# Altium schematic symbol library SomoPowerPackControl.SchLib: 47 symbols
Pins are listed as number, name and electrical type; pins without a type are passive.

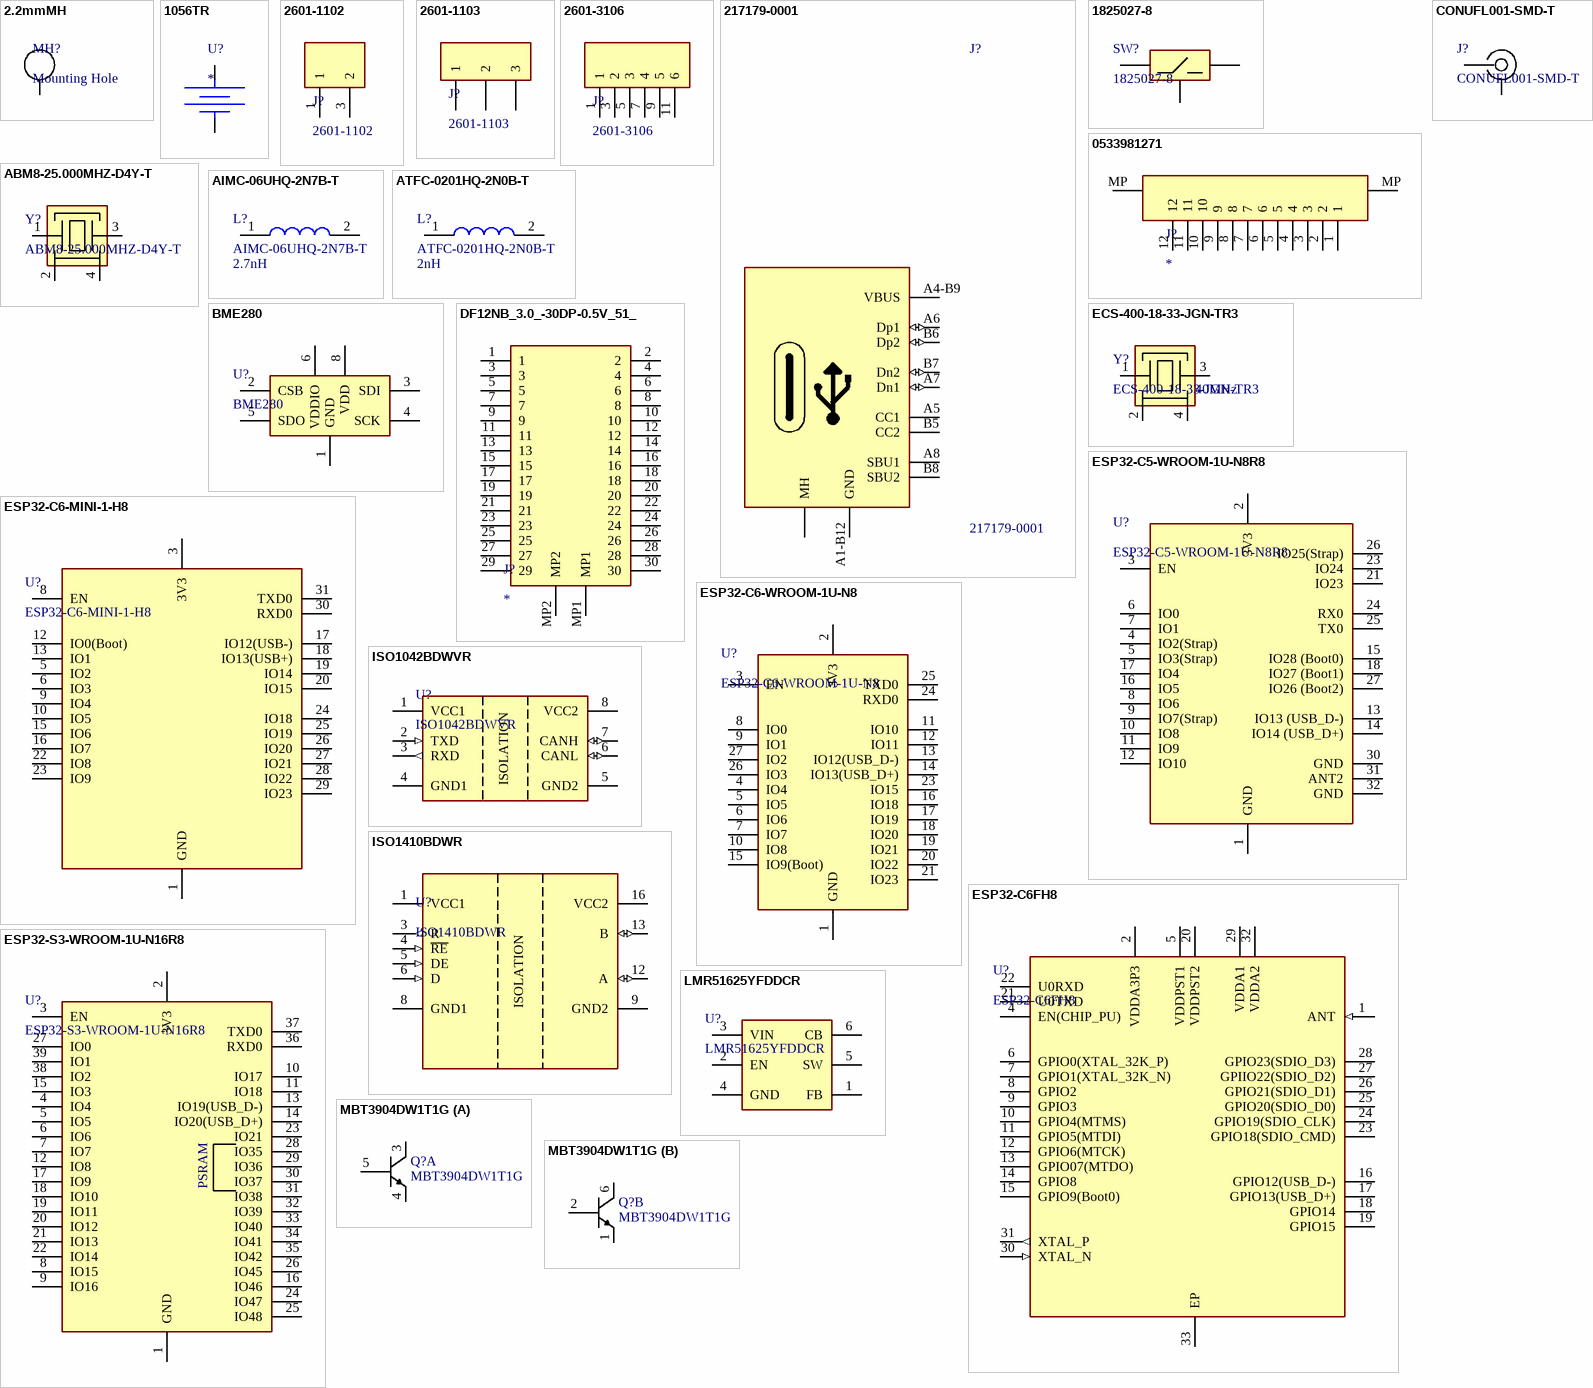
[diagram p0: symbols 2.2mmMH to MBT3904DW1T1G]

## 2.2mmMH
designator MH?, comment Mounting Hole  (no BOM)
2.2mm Mounting Hole
footprint MountingHole2.2 (2.2mm Mounting Hole)
pins: 1

## 1056TR
designator U?
Undefined or Miscellaneous; Manufacturer_Name: Keystone Electronics; Manufacturer_Part_Number: 1056TR; Datasheet Link: http://www.keyelco.com/product-pdf.cfm?p=4028; Mouser Part Number: 534-1056TR; Mouser Price/Stock: https://www.mouser.co.uk/ProductDetail/Keystone-Electronics/1056TR?qs=sZfk%252BfAlGe6t6AyLJNcPdQ%3D%3D; Arrow Part Number: 1056TR; Arrow Price/Stock: https://www.arrow.com/en/products/1056tr/keystone-electronics?utm_currency=USD&region=europe
footprint 1056TR
pins: 1, 2

## 2601-1102
designator J?
2 Position Wire to Board Terminal Block Horizontal with Board 0.138" (3.50mm) Through Hole; Manufacturer_Name: Wago; Datasheet Link: https://www.wago.com/2601-1102; Height: 12.75mm; Manufacturer_Part_Number: 2601-1102; Value: 2601-1102
footprint 26011102
pins: 1, 2 1.2, 3 2, 4 2.2

## 2601-1103
designator J?
3 Position Wire to Board Terminal Block Horizontal with Board 0.138" (3.50mm) Through Hole; Manufacturer_Name: Wago; Datasheet Link: https://www.wago.com/2601-1103; Height: 12.75mm; Manufacturer_Part_Number: 2601-1103; Value: 2601-1103
footprint 26011103
pins: 1, 2 1.2, 3 2, 4 2.2, 5 3, 6 3.2

## 2601-3106
designator J?
6 Position Wire to Board Terminal Block Vertical with Board 0.138" (3.50mm) Through Hole; Manufacturer_Name: Wago; Datasheet Link: https://www.wago.com/2601-3106; Height: 16.58mm; Manufacturer_Part_Number: 2601-3106; Arrow Part Number: 2601-3106; Arrow Price/Stock: https://www.arrow.com/en/products/2601-3106/wago-kontakttechnik-gmbh?utm_currency=USD&region=nac; Value: 2601-3106
footprint 26013106
pins: 1, 2 1, 3 2, 4 2, 5 3, 6 3, 7 4, 8 4, 9 5, 10 5, 11 6, 12 6

## 217179-0001
designator J?
CONN RCP USB2.0 TYP C 24P SMD RA; NexarPartId: 117190526; Gender: Receptacle; Number of Contacts: 16; Current Rating: 1.25A; Voltage Rating: 30V; Min Operating Temperature: -40°C; USB Standard: USB 2.0; Height: 3.36mm; Contact Material: Gold, Nickel; Max Operating Temperature: 85°C
footprint 217179-0001
pins: 1 MH, 2 MNT 2, 3 MNT 3 (power), 4 MNT 4 (power), A1-B12 GND (power), A4-B9 VBUS (power), A5 CC1, A6 Dp1 (io), A7 Dn1 (io), A8 SBU1, B1-A12 GND (power), B4-A9 VBUS (power), B5 CC2, B6 Dp2 (io), B7 Dn2 (io), B8 SBU2

## 1825027-8
designator SW?
Tactile Switches R/A TACT 160G PB SWITCH; Manufacturer_Name: TE Connectivity; Datasheet Link: https://www.te.com/commerce/DocumentDelivery/DDEController?Action=srchrtrv&DocNm=1308111-1_SWITCHES_CORE_PROGRAM_CATALOG&DocType=Catalog%20Section&DocLang=English&PartCntxt=1825027-8&DocFormat=pdf; Manufacturer_Part_Number: 1825027-8; Mouser Part Number: 506-1825027-8; Mouser Price/Stock: https://www.mouser.co.uk/ProductDetail/TE-Connectivity-PB/1825027-8?qs=epcAG6di8sy8nV4XqfkwYg%3D%3D; Arrow Part Number: 1825027-8; Arrow Price/Stock: https://www.arrow.com/en/products/1825027-8/te-connectivity?utm_currency=USD&region=nac; Value: 1825027-8
footprint 1825027-8
pins: 1, 2, 3, 4

## 0533981271
designator J?
Connector; Manufacturer_Name: Molex; Manufacturer_Part_Number: 0533981271; Datasheet Link: https://www.molex.com/en-us/products/part-detail-pdf/533981271?display=pdf; Mouser Part Number: N/A; Mouser Price/Stock: https://www.mouser.co.uk/ProductDetail/Molex/0533981271?qs=PBcRNPEHKsqZYaCk%2Fl04Qw%3D%3D; Arrow Part Number: 0533981271; Arrow Price/Stock: https://www.arrow.com/en/products/0533981271/molex?region=nac
footprint 53398-1271
pins: 1, 2, 3, 4, 5, 6, 7, 8, 9, 10, 11, 12, MP 13, MP 14

## ABM8-25.000MHZ-D4Y-T
designator Y?
Crystals 25.0 MHZ 18PF; Manufacturer_Name: ABRACON; Datasheet Link: https://abracon.com/Resonators/abm8.pdf; Height: 0.8mm; Manufacturer_Part_Number: ABM8-25.000MHZ-D4Y-T; Mouser Part Number: 815-ABM825MHZD4YT; Mouser Price/Stock: https://www.mouser.co.uk/ProductDetail/ABRACON/ABM8-25.000MHZ-D4Y-T?qs=wnTfsH77Xs60Mu7RwfpTpw%3D%3D; Arrow Part Number: ABM8-25.000MHZ-D4Y-T; Arrow Price/Stock: https://www.arrow.com/en/products/abm8-25.000mhz-d4y-t/abracon?region=nac; Value: ABM8-25.000MHZ-D4Y-T
footprint ABM810000MHZ12D2W
pins: 1 X1, 2 GND_1, 3 X2, 4 GND_2

## AIMC-06UHQ-2N7B-T
designator L?  Inductance: 2.7nH
RF Inductors - SMD IND 2.7 nH 0.6A 120 mOhm; Manufacturer_Part_Number: AIMC-06UHQ-2N7B-T; Value: AIMC-06UHQ-2N7B-T
footprint INDC0603X28N
pins: 1, 2

## ATFC-0201HQ-2N0B-T
designator L?  Inductance: 2nH
RF Inductors - SMD IND 2.00 nH 0.500 A 200.00 mOhm; Manufacturer_Name: ABRACON; Datasheet Link: https://abracon.com/Magnetics/inductors/ATFC-0201HQ.pdf; Height: 0.28mm; Manufacturer_Part_Number: ATFC-0201HQ-2N0B-T; Value: ATFC-0201HQ-2N0B-T
footprint INDC0603X28N
pins: 1, 2

## BME280
designator U?
Air Quality Sensors MEMS humidity, pressure and temperature sensor; Manufacturer_Name: Olimex Ltd.; Manufacturer_Part_Number: MOD-BME280; Datasheet Link: https://eu.mouser.com/datasheet/2/306/BME280-1620794.pdf; Height: 1mm; Mouser Part Number: 909-MOD-BME280; Mouser Price/Stock: https://www.mouser.co.uk/ProductDetail/Olimex-Ltd/MOD-BME280?qs=%252B6g0mu59x7K82sEO3yPPgg%3D%3D; Value: BME280
footprint MODBME280
pins: 1 GND, 2 CSB, 3 SDI, 4 SCK, 5 SDO, 6 VDDIO, 7 GND, 8 VDD

## CONUFL001-SMD-T
designator J?
RF Connectors / Coaxial Connectors T&R U.FL Straight Surface Mount Jack; Manufacturer_Name: TE Connectivity; Datasheet Link: https://www.te.com/en/product-CONUFL001-SMD.html; Height: 1.3mm; Manufacturer_Part_Number: CONUFL001-SMD; Mouser Part Number: 712-CONUFL001-SMD; Mouser Price/Stock: https://www.mouser.co.uk/ProductDetail/TE-Connectivity-Linx-Technologies/CONUFL001-SMD?qs=gt1LBUVyoHmYTl61nURe0w%3D%3D; Value: CONUFL001-SMD-T
footprint CONUFL001SMD
pins: 1 GND_1, 2 GND_2, 3 SIG

## DF12NB_3.0_-30DP-0.5V_51_
designator J?
Connector; Manufacturer_Name: Hirose; Manufacturer_Part_Number: DF12NB(3.0)-30DP-0.5V(51); Datasheet Link: https://www.hirose.com/en/product/document?clcode=CL0537-0389-0-51&productname=DF12NB(3.0)-30DP-0.5V(51)&series=DF12N&documenttype=2DDrawing&lang=en&documentid=0001367354; Height: 2.5mm; Mouser Part Number: 798-DF12NB3030DP0551; Mouser Price/Stock: https://www.mouser.co.uk/ProductDetail/Hirose-Connector/DF12NB3.0-30DP-0.5V51?qs=DPoM0jnrROVGT6JTbeYOKw%3D%3D
footprint DF12NB3030DP05V51
pins: 1, 2, 3, 4, 5, 6, 7, 8, 9, 10, 11, 12, 13, 14, 15, 16, 17, 18, 19, 20, 21, 22, 23, 24, 25, 26, 27, 28, 29, 30, MP1, MP2

## ECS-400-18-33-JGN-TR3
designator Y?  Frequency: 40MHz
Crystals 40MHz,CL 18,TOL +/-20 ppm ,STAB +/-30 ppm,-40 - +85C,ESR 40ohm; Manufacturer_Name: ECS; Datasheet Link: https://ecsxtal.com/store/pdf/ecx-32.pdf; Height: 0.8mm; Manufacturer_Part_Number: ECS-400-18-33-JGN-TR3; Mouser Part Number: 520-400-18-33JGN-TR3; Mouser Price/Stock: https://www.mouser.co.uk/ProductDetail/ECS/ECS-400-18-33-JGN-TR3?qs=e8oIoAS2J1SLxEG9aPzeug%3D%3D; Arrow Part Number: ECS-400-18-33-JGN-TR3; Arrow Price/Stock: https://www.arrow.com/en/products/ecs-400-18-33-jgn-tr3/ecs-international?utm_currency=USD&region=nac; Value: ECS-400-18-33-JGN-TR3
footprint ECS4001833JGNTR3
pins: 1 X1, 2 GND_1, 3 X2, 4 GND_2

## ESP32-C5-WROOM-1U-N8R8
designator U?
Integrated Circuit; Manufacturer_Name: Espressif Systems; Manufacturer_Part_Number: ESP32-C5-WROOM-1-N8R8; Datasheet Link: https://documentation.espressif.com/esp32-c5-wroom-1_wroom-1u_datasheet_en.pdf; Height: 3.45mm; Value: ESP32-C5-WROOM-1U-N8R8
footprint ESP32C5WROOM1UN8R8
pins: 1 GND, 2 3V3, 3 EN, 4 IO2(Strap), 5 IO3(Strap), 6 IO0, 7 IO1, 8 IO6, 9 IO7(Strap), 10 IO8, 11 IO9, 12 IO10, 13 IO13 (USB_D-), 14 IO14 (USB_D+), 15 IO28 (Boot0), 16 IO5, 17 IO4, 18 IO27 (Boot1), 19 NC/IO15 hidden, 20 NC_1 hidden, 21 IO23, 22 NC_2 hidden, 23 IO24, 24 RX0, 25 TX0, 26 IO25(Strap), 27 IO26 (Boot2), 28 GND, 29 GND, 30 GND, 31 ANT2, 32 GND

## ESP32-C6-MINI-1-H8
designator U?
Multiprotocol Modules ESP32-C6-MINI-1 and ESP32-C6-MINI-1U are two powerful, general-purpose Wi-Fi, IEEE 802.15.4, and Bluetooth LE modules. The rich set of peripherals and high performance make the module an ideal choice for smart homes, industrial automation, health car; Value: ESP32-C6-MINI-1-H8
footprint ESP32C6MINI1H8
pins: 1 GND, 2 GND, 3 3V3, 5 IO2, 6 IO3, 8 EN, 9 IO4, 10 IO5, 11 GND, 12 IO0(Boot), 13 IO1, 14 GND, 15 IO6, 16 IO7, 17 IO12(USB-), 18 IO13(USB+), 19 IO14, 20 IO15, 22 IO8, 23 IO9, 24 IO18, 25 IO19, 26 IO20, 27 IO21, 28 IO22, 29 IO23, 30 RXD0, 31 TXD0, 36 GND, 37 GND, 38 GND, 39 GND, 40 GND, 41 GND, 42 GND, 43 GND, 44 GND, 45 GND, 46 GND, 47 GND, 48 GND, 49 GND, 50 GND, 51 GND, 52 GND, 53 GND, 54 GND, 55 GND, 56 GND, 57 GND, 58 GND, 59 GND, 60 GND, 61 GND

## ESP32-C6-WROOM-1U-N8
designator U?
Multiprotocol Modules 8 MB (Quad SPI), 32-bit RISC-V Embedded Module; Manufacturer_Name: Espressif Systems; Datasheet Link: https://www.espressif.com/sites/default/files/documentation/esp32-c6-wroom-1_wroom-1u_datasheet_en.pdf; Height: 3.35mm; Manufacturer_Part_Number: ESP32-C6-WROOM-1U-N8; Mouser Part Number: 356-ESP32C6WROOM1UN8; Mouser Price/Stock: https://www.mouser.co.uk/ProductDetail/Espressif-Systems/ESP32-C6-WROOM-1U-N8?qs=1Kr7Jg1SGW%2FzPU4G%252ByMwkA%3D%3D; Value: ESP32-C6-WROOM-1U-N8
footprint ESP32C6WROOM1UN8
pins: 1 GND, 2 3V3, 3 EN, 4 IO4, 5 IO5, 6 IO6, 7 IO7, 8 IO0, 9 IO1, 10 IO8, 11 IO10, 12 IO11, 13 IO12(USB_D-), 14 IO13(USB_D+), 15 IO9(Boot), 16 IO18, 17 IO19, 18 IO20, 19 IO21, 20 IO22, 21 IO23, 22 NC hidden, 23 IO15, 24 RXD0, 25 TXD0, 26 IO3, 27 IO2, 28 GND, 29 GND, 30 GND, 31 GND, 32 GND, 33 GND, 34 GND, 35 GND, 36 GND, 37 GND

## ESP32-C6FH8
designator U?
RF System on a Chip - SoC The ESP32-C6 SoC (System on Chip) supports Wi-Fi 6 in 2.4 GHz band, Bluetooth 5, Zigbee 3.0 and Thread 1.3. It consists of a high-performance (HP) 32-bit RISC-V processor, an low-power (LP) 32-bit RISC-V processor, wireless baseband and MAC (Wi-Fi, B; Manufacturer_Name: Espressif Systems; Datasheet Link: https://www.mouser.com/catalog/specsheets/Espressif_Systems_esp32-c6_datasheet_en.pdf?_gl=1*1ptryyt*_gcl_au*OTI1ODI0MjA4LjE3MzA2NzM1NjM.*_ga*MjA4NTc5NzE2MC4xNzMwNjczNTYz*_ga_15W4STQT4T*MTczMTIwMTgzNi44LjEuMTczMTIwMTg5OC41OS4wLjA.; Height: 0.9mm; Manufacturer_Part_Number: ESP32-C6FH8; VALUE: ESP32-C6FH8
footprint QFN50P500X500X90-33N-D
pins: 1 ANT (in), 2 VDDA3P3, 3 VDDA3P3, 4 EN(CHIP_PU), 5 VDDPST1, 6 GPIO0(XTAL_32K_P), 7 GPIO1(XTAL_32K_N), 8 GPIO2, 9 GPIO3, 10 GPIO4(MTMS), 11 GPIO5(MTDI), 12 GPIO6(MTCK), 13 GPIO07(MTDO), 14 GPIO8, 15 GPIO9(Boot0), 16 GPIO12(USB_D-), 17 GPIO13(USB_D+), 18 GPIO14, 19 GPIO15, 20 VDDPST2, 21 U0TXD, 22 U0RXD, 23 GPIO18(SDIO_CMD), 24 GPIO19(SDIO_CLK), 25 GPIO20(SDIO_D0), 26 GPIO21(SDIO_D1), 27 GPIIO22(SDIO_D2), 28 GPIO23(SDIO_D3), 29 VDDA1, 30 XTAL_N (in), 31 XTAL_P (out), 32 VDDA2, 33 EP

## ESP32-S3-WROOM-1U-N16R8
designator U?
RF System on a Chip - SoC SMD IC ESP32-S3, dual-core MCU, Wi-Fi 2.4G & BLE 5.0 combo, QFN 56-pin, 7*7 mm; Manufacturer_Name: Espressif Systems; Datasheet Link: https://www.espressif.com/sites/default/files/documentation/esp32-s3-wroom-1_wroom-1u_datasheet_en.pdf; Height: 3.35mm; Manufacturer_Part_Number: ESP32-S3-WROOM-1U-N16R8; Mouser Part Number: 356-ESP32S3WM1UN16R8; Mouser Price/Stock: https://www.mouser.co.uk/ProductDetail/Espressif-Systems/ESP32-S3-WROOM-1U-N16R8?qs=Li%252BoUPsLEns6V0Pr5KRJtw%3D%3D; Value: ESP32-S3-WROOM-1U-N16R8
footprint ESP32S3WROOM1UN16R8
pins: 1 GND, 2 3V3, 3 EN, 4 IO4, 5 IO5, 6 IO6, 7 IO7, 8 IO15, 9 IO16, 10 IO17, 11 IO18, 12 IO8, 13 IO19(USB_D-), 14 IO20(USB_D+), 15 IO3, 16 IO46, 17 IO9, 18 IO10, 19 IO11, 20 IO12, 21 IO13, 22 IO14, 23 IO21, 24 IO47, 25 IO48, 26 IO45, 27 IO0, 28 IO35, 29 IO36, 30 IO37, 31 IO38, 32 IO39, 33 IO40, 34 IO41, 35 IO42, 36 RXD0, 37 TXD0, 38 IO2, 39 IO1, 40 GND, 41 GND, 42 GND, 43 GND, 44 GND, 45 GND, 46 GND, 47 GND, 48 GND, 49 GND
text: PSRAM

## ISO1042BDWVR
designator U?
CAN Interface IC Isolated CAN transce iver with 70-V bus A 595-ISO1042BDWV; Manufacturer_Name: Texas Instruments; Datasheet Link: http://www.ti.com/lit/gpn/ISO1042; Height: 2.8mm; Manufacturer_Part_Number: ISO1042BDWVR; Mouser Part Number: 595-ISO1042BDWVR; Mouser Price/Stock: https://www.mouser.co.uk/ProductDetail/Texas-Instruments/ISO1042BDWVR?qs=qSfuJ%252Bfl%2Fd68DAhWt0GTEQ%3D%3D; Arrow Part Number: ISO1042BDWVR; Arrow Price/Stock: https://www.arrow.com/en/products/iso1042bdwvr/texas-instruments?utm_currency=USD&region=europe; Value: ISO1042BDWVR
footprint SOIC127P1150X280-8N
pins: 1 VCC1, 2 TXD (in), 3 RXD (out), 4 GND1, 5 GND2, 6 CANL (io), 7 CANH (io), 8 VCC2
text: ISOLATION

## ISO1410BDWR
designator U?
RS-422/RS-485 Interface IC EMC protected 500-K bps half-duplex 5- A A 595-ISO1410BDW; Manufacturer_Name: Texas Instruments; Datasheet Link: https://www.ti.com/lit/gpn/iso1410; Height: 2.65mm; Manufacturer_Part_Number: ISO1410BDWR; Mouser Part Number: 595-ISO1410BDWR; Mouser Price/Stock: https://www.mouser.co.uk/ProductDetail/Texas-Instruments/ISO1410BDWR?qs=w%2Fv1CP2dgqpcxRBPfgAJ0Q%3D%3D; Arrow Part Number: ISO1410BDWR; Arrow Price/Stock: https://www.arrow.com/en/products/iso1410bdwr/texas-instruments?region=europe; Value: ISO1410BDWR
footprint SOIC127P1030X265-16N
pins: 1 VCC1, 2 GND1, 3 R (out), 4 ~{RE} (in), 5 DE (in), 6 D (in), 7 NC hidden, 8 GND1, 9 GND2, 10 NC hidden, 11 NC hidden, 12 A (io), 13 B (io), 14 NC hidden, 15 GND2, 16 VCC2
text: ISOLATION

## LMR51625YFDDCR
designator U?
Switching Voltage Regulators SIMPLE SWITCHER sync hronous buck conver; Manufacturer_Name: Texas Instruments; Datasheet Link: https://www.mouser.kr/ProductDetail/Texas-Instruments/LMR51625YFDDCR?qs=efUn273yAhe0Di9PgWnVVg%3D%3D; Height: 1.1mm; Manufacturer_Part_Number: LMR51625YFDDCR; Mouser Part Number: 595-LMR51625YFDDCR; Mouser Price/Stock: https://www.mouser.co.uk/ProductDetail/Texas-Instruments/LMR51625YFDDCR?qs=efUn273yAhe0Di9PgWnVVg%3D%3D; Arrow Part Number: LMR51625YFDDCR; Arrow Price/Stock: https://www.arrow.com/en/products/lmr51625yfddcr/texas-instruments?utm_currency=USD&region=nac; Value: LMR51625YFDDCR
footprint SOT95P280X110-6N
pins: 1 FB, 2 EN, 3 VIN, 4 GND, 5 SW, 6 CB

## MBT3904DW1T1G
designator Q?
Bipolar Transistors - BJT 200mA 60V Dual NPN; Manufacturer_Name: onsemi; Datasheet Link: https://www.onsemi.com/pub/Collateral/MBT3904DW1T1-D.PDF; Height: 1.1mm; Manufacturer_Part_Number: MBT3904DW1T1G; Mouser Part Number: 863-MBT3904DW1T1G; Mouser Price/Stock: https://www.mouser.co.uk/ProductDetail/onsemi/MBT3904DW1T1G?qs=3JMERSakebosaBSFCYL6kw%3D%3D; Arrow Part Number: MBT3904DW1T1G; Arrow Price/Stock: https://www.arrow.com/en/products/mbt3904dw1t1g/on-semiconductor?region=nac; Value: MBT3904DW1T1G
footprint SOT65P210X110-6N
part A pins: 3 C_1, 4 E_1, 5 B_1
part B pins: 1 E_2, 2 B_2, 6 C_2

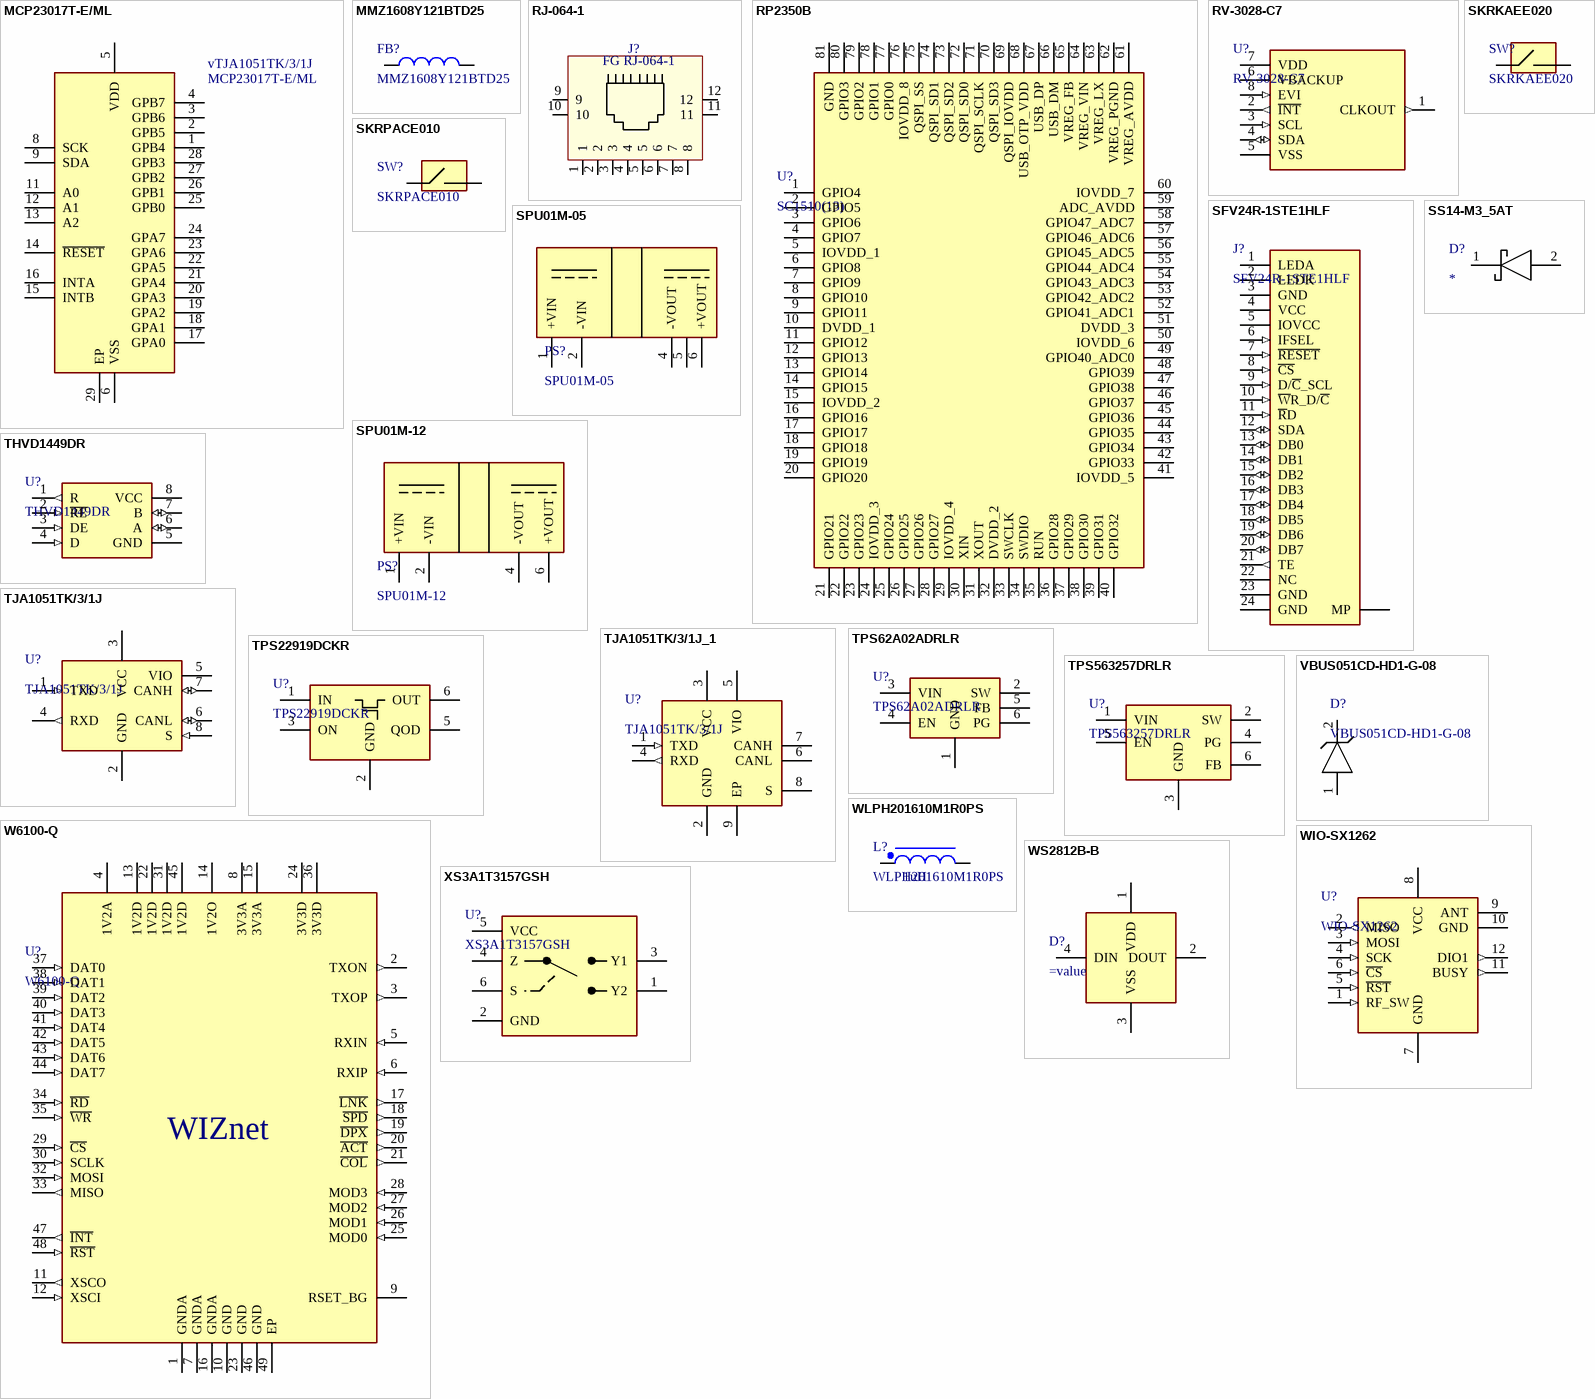
[diagram p1: symbols MCP23017T-E/ML to XS3A1T3157GSH]

## MCP23017T-E/ML
designator vTJA1051TK/3/1J
Interface - I/O Expanders 16bit Input/Output Exp I2C interface; Manufacturer_Name: Microchip; Datasheet Link: https://datasheet.datasheetarchive.com/originals/distributors/SFDatasheet-4/sf-00090057.pdf; Height: 1mm; Manufacturer_Part_Number: MCP23017T-E/ML; Mouser Part Number: 579-MCP23017T-E/ML; Mouser Price/Stock: https://www.mouser.co.uk/ProductDetail/Microchip-Technology/MCP23017T-E-ML?qs=usxtMOJb1RwLvxs2MXknpg%3D%3D; Arrow Part Number: MCP23017T-E/ML; Arrow Price/Stock: https://www.arrow.com/en/products/mcp23017t-eml/microchip-technology.html?utm_currency=USD&region=nac; Value: MCP23017T-E/ML
footprint QFN65P600X600X100-29N-D
pins: 1 GPB4, 2 GPB5, 3 GPB6, 4 GPB7, 5 VDD, 6 VSS, 7 NC_1 hidden, 8 SCK, 9 SDA, 10 NC_2 hidden, 11 A0, 12 A1, 13 A2, 14 ~{RESET}, 15 INTB, 16 INTA, 17 GPA0, 18 GPA1, 19 GPA2, 20 GPA3, 21 GPA4, 22 GPA5, 23 GPA6, 24 GPA7, 25 GPB0, 26 GPB1, 27 GPB2, 28 GPB3, 29 EP

## MMZ1608Y121BTD25
designator FB?
Ferrite Beads 0603 120ohms 500mA Signal Line AEC-Q200; Impedance: 120; Value: MMZ1608Y121BTD25
footprint BEADC1608X95N
pins: 1, 2

## RJ-064-1
designator J?, comment FG RJ-064-1
Value: FG RJ-064-1
footprint rj-064-1
pins: 1, 2, 3, 4, 5, 6, 7, 8, 9, 10, 11, 12

## RP2350B
designator U?, comment SC1510(13)
ARM Microcontrollers - MCU RP2350B 150MHz clock Dual Arm Cortex-M33 cores 520KB RAM 8KB on-chip QFN-80; Manufacturer_Name: RASPBERRY-PI; Datasheet Link: https://datasheets.raspberrypi.com/rp2350/rp2350-product-brief.pdf; Height: 0.9mm; Manufacturer_Part_Number: RP2350B; Value: SC1510(13)
footprint QFN40P1000X1000X90-81N-D
pins: 1 GPIO4, 2 GPIO5, 3 GPIO6, 4 GPIO7, 5 IOVDD_1, 6 GPIO8, 7 GPIO9, 8 GPIO10, 9 GPIO11, 10 DVDD_1, 11 GPIO12, 12 GPIO13, 13 GPIO14, 14 GPIO15, 15 IOVDD_2, 16 GPIO16, 17 GPIO17, 18 GPIO18, 19 GPIO19, 20 GPIO20, 21 GPIO21, 22 GPIO22, 23 GPIO23, 24 IOVDD_3, 25 GPIO24, 26 GPIO25, 27 GPIO26, 28 GPIO27, 29 IOVDD_4, 30 XIN, 31 XOUT, 32 DVDD_2, 33 SWCLK, 34 SWDIO, 35 RUN, 36 GPIO28, 37 GPIO29, 38 GPIO30, 39 GPIO31, 40 GPIO32, 41 IOVDD_5, 42 GPIO33, 43 GPIO34, 44 GPIO35, 45 GPIO36, 46 GPIO37, 47 GPIO38, 48 GPIO39, 49 GPIO40_ADC0, 50 IOVDD_6, 51 DVDD_3, 52 GPIO41_ADC1, 53 GPIO42_ADC2, 54 GPIO43_ADC3, 55 GPIO44_ADC4, 56 GPIO45_ADC5, 57 GPIO46_ADC6, 58 GPIO47_ADC7, 59 ADC_AVDD, 60 IOVDD_7, 61 VREG_AVDD, 62 VREG_PGND, 63 VREG_LX, 64 VREG_VIN, 65 VREG_FB, 66 USB_DM, 67 USB_DP, 68 USB_OTP_VDD, 69 QSPI_IOVDD, 70 QSPI_SD3, 71 QSPI_SCLK, 72 QSPI_SD0, 73 QSPI_SD2, 74 QSPI_SD1, 75 QSPI_SS, 76 IOVDD_8, 77 GPIO0, 78 GPIO1, 79 GPIO2, 80 GPIO3, 81 GND

## RV-3028-C7
designator U?
Real Time Clock (RTC) IC Clock/Calendar 2B, 43B I2C, 2-Wire Serial 8-WCDFN; Manufacturer_Name: Micro Crystal AG; Manufacturer_Part_Number: RV-3028-C7 32.768KHZ 1PPM-TA-QA; Datasheet Link: https://www.microcrystal.com/fileadmin/Media/Products/RTC/Datasheet/RV-3028-C7.pdf; Height: 0.8mm; Value: RV-3028-C7
footprint RV3028C732768KHZ1PPMTAQA
pins: 1 CLKOUT (out), 2 ~{INT} (out), 3 SCL (in), 4 SDA (io), 5 VSS, 6 VBACKUP, 7 VDD, 8 EVI (in)

## SFV24R-1STE1HLF
designator J?
24 Position FFC, FPC Connector Contacts, Bottom 0.020" (0.50mm) Surface Mount, Right Angle; Manufacturer_Name: Amphenol Communications Solutions; Datasheet Link: https://cdn.amphenol-cs.com/media/wysiwyg/files/drawing/10112793.pdf; Height: 2mm; Manufacturer_Part_Number: SFV24R-1STE1HLF; VALUE: SFV24R-1STE1HLF
footprint SFV24R1STE1HLF
pins: 1 LEDA (power), 2 LEDK (power), 3 GND (power), 4 VCC (power), 5 IOVCC (power), 6 IFSEL (in), 7 ~{RESET} (in), 8 ~{CS} (in), 9 D/~{C}_SCL (in), 10 ~{W}R_D/~{C} (in), 11 ~{R}D (in), 12 SDA (io), 13 DB0 (io), 14 DB1 (io), 15 DB2 (io), 16 DB3 (io), 17 DB4 (io), 18 DB5 (io), 19 DB6 (io), 20 DB7 (io), 21 TE (out), 22 NC, 23 GND (power), 24 GND (power), MP1 MP, MP2 MP, MP3 MP, MP4 MP, MP5 MP, MP6 MP

## SKRKAEE020
designator SW?
Tactile Switches 3.9x2.9x2.0mm 160gf Packaging Temp 80oC; Manufacturer_Name: ALPS Electric; Datasheet Link: http://www.alps.com/prod/info/J/HTML/Tact/SurfaceMount/SKRK/SKRKAEE020.html; Height: 2mm; Manufacturer_Part_Number: SKRKAEE020; Mouser Part Number: 688-SKRKAEE020; Mouser Price/Stock: https://www.mouser.co.uk/ProductDetail/Alps-Alpine/SKRKAEE020?qs=MrosSN5%252BUQW89XjXIp8Ugw%3D%3D; Value: SKRKAEE020
footprint SKRKAEE020
pins: 1, 2

## SKRPACE010
designator SW?
Tactile Switches 4.2x3.2x2.5mm 260gf Surface Mount; Manufacturer_Name: ALPS Electric; Datasheet Link: http://www.alps.com/prod/info/E/HTML/Tact/SurfaceMount/SKRP/SKRPACE010.html; Manufacturer_Part_Number: SKRPACE010; Mouser Part Number: 688-SKRPACE010; Mouser Price/Stock: https://www.mouser.co.uk/ProductDetail/Alps-Alpine/SKRPACE010?qs=dHDuPHwQO79W8iY66hDbLQ%3D%3D; Arrow Part Number: SKRPACE010; Arrow Price/Stock: https://www.arrow.com/en/products/skrpace010/alps-electric; Value: SKRPACE010
footprint SMT(4.2X3.2)
pins: 1, 2, 3, 4

## SPU01M-05
designator PS?
DC/DC Converters - Through Hole 10.8-13.2Vin 5Vout 200mA SIP6 Unreg Iso; Manufacturer_Name: Mean Well; Datasheet Link: https://www.meanwell-web.com/content/files/pdfs/productPdfs/MW/SPU01/SPU01,DPU01-spec.pdf; Manufacturer_Part_Number: SPU01M-05; Mouser Part Number: 709-SPU01M-05; Mouser Price/Stock: https://www.mouser.co.uk/ProductDetail/MEAN-WELL/SPU01M-05?qs=5aG0NVq1C4zqoTxRHq2n7A%3D%3D; Arrow Part Number: SPU01M-05; Arrow Price/Stock: https://www.arrow.com/en/products/spu01m-05/mean-well-enterprises?utm_currency=USD&region=nac; Value: SPU01M-05
footprint DPU01M05
pins: 1 +VIN, 2 -VIN, 4 -VOUT, 5 NO_PIN, 6 +VOUT

## SPU01M-12
designator PS?
DC/DC Converters - Through Hole 10.8-13.2Vin 12Vout 84mA SIP6 Unreg Iso; Manufacturer_Name: Mean Well; Datasheet Link: http://www.meanwellusa.com/productPdf.aspx?i=789; Height: 10mm; Manufacturer_Part_Number: SPU01M-12; Mouser Part Number: 709-SPU01M-12; Mouser Price/Stock: https://www.mouser.co.uk/ProductDetail/MEAN-WELL/SPU01M-12?qs=5aG0NVq1C4xTuLcwzli1XA%3D%3D; Arrow Part Number: SPU01M-12; Arrow Price/Stock: https://www.arrow.com/en/products/spu01m-12/mean-well-enterprises?utm_currency=USD&region=nac; Value: SPU01M-12
footprint SPU01M12
pins: 1 +VIN, 2 -VIN, 4 -VOUT, 6 +VOUT

## SS14-M3_5AT
designator D?
Schottky Diode; Manufacturer_Name: Vishay; Manufacturer_Part_Number: SS14-M3/5AT; Datasheet Link: https://www.arrow.com/en/products/ss14-m35at/vishay; Height: 2.29mm; Mouser Part Number: 78-SS14-M35AT; Mouser Price/Stock: https://www.mouser.co.uk/ProductDetail/Vishay-General-Semiconductor/SS14-M3-5AT?qs=u%252Bh7cTrMUz9sZ2wuc5tO4g%3D%3D; Arrow Part Number: SS14-M3/5AT; Arrow Price/Stock: https://www.arrow.com/en/products/ss14-m35at/vishay?utm_currency=USD&region=nac
footprint DIOM5127X229N
pins: 1 K, 2 A

## THVD1449DR
designator U?
RS-422/RS-485 Interface IC 3.3-V to 5-V 12-Mbp s RS-485 transceive; Manufacturer_Name: Texas Instruments; Datasheet Link: https://www.ti.com.cn/cn/lit/ds/symlink/thvd1449.pdf?ts=1647568007054&ref_url=https%253A%252F%252Fwww.ti.com.cn%252Fproduct%252Fcn%252FTHVD1449; Height: 1.75mm; Manufacturer_Part_Number: THVD1449DR; Mouser Part Number: 595-THVD1449DR; Mouser Price/Stock: https://www.mouser.co.uk/ProductDetail/Texas-Instruments/THVD1449DR?qs=doiCPypUmgHdnCYmh3JL1A%3D%3D; Arrow Part Number: THVD1449DR; Arrow Price/Stock: https://www.arrow.com/en/products/thvd1449dr/texas-instruments?region=nac; Value: THVD1449DR
footprint SOIC127P600X175-8N
pins: 1 R (out), 2 ~{RE} (in), 3 DE (in), 4 D (in), 5 GND, 6 A (io), 7 B (io), 8 VCC

## TJA1051TK/3/1J
designator U?
CAN Interface IC High-speed CAN transceiver; Manufacturer_Name: NXP; Datasheet Link: http://www.nxp.com/docs/en/data-sheet/TJA1051.pdf; Height: 1mm; Manufacturer_Part_Number: TJA1051TK/3/1J; Mouser Part Number: 771-TJA1051TK/3/1J; Mouser Price/Stock: https://www.mouser.co.uk/ProductDetail/NXP-Semiconductors/TJA1051TK-3-1J?qs=Yna0arPQ0CQUHfMPFkcFQw%3D%3D; Arrow Part Number: TJA1051TK/3/1J; Arrow Price/Stock: https://www.arrow.com/en/products/tja1051tk31j/nxp-semiconductors?utm_currency=USD&region=nac; Value: TJA1051TK/3/1J
footprint SON65P300X300X100-9N-D
pins: 1 TXD (in), 2 GND, 3 VCC, 4 RXD (out), 5 VIO, 6 CANL (io), 7 CANH (io), 8 S (in), 9 EP

## TJA1051TK/3/1J_1
designator U?, comment TJA1051TK/3/1J
Integrated Circuit; Manufacturer_Name: NXP; Datasheet Link: http://www.nxp.com/docs/en/data-sheet/TJA1051.pdf; Height: 1mm; Manufacturer_Part_Number: TJA1051TK/3/1J; Mouser Part Number: 771-TJA1051TK/3/1J; Mouser Price/Stock: https://www.mouser.co.uk/ProductDetail/NXP-Semiconductors/TJA1051TK-3-1J?qs=Yna0arPQ0CQUHfMPFkcFQw%3D%3D; Arrow Part Number: TJA1051TK/3/1J; Arrow Price/Stock: https://www.arrow.com/en/products/tja1051tk31j/nxp-semiconductors.html?utm_currency=USD&region=nac; Value: TJA1051TK/3/1J
footprint SON65P300X300X100-9N-D
pins: 1 TXD (in), 2 GND, 3 VCC, 4 RXD (out), 5 VIO, 6 CANL, 7 CANH, 8 S, 9 EP

## TPS62A02ADRLR
designator U?
Switching Voltage Regulators 2.5-V to 5.5-V input 2-A high-efficienc; Manufacturer_Name: Texas Instruments; Datasheet Link: https://www.ti.com/lit/ds/symlink/tps62a01a.pdf?ts=1674357044768&ref_url=https%253A%252F%252Fwww.google.com%252F; Height: 0.6mm; Manufacturer_Part_Number: TPS62A02ADRLR; Mouser Part Number: 595-TPS62A02ADRLR; Mouser Price/Stock: https://www.mouser.co.uk/ProductDetail/Texas-Instruments/TPS62A02ADRLR?qs=By6Nw2ByBD27zXzxBxM12w%3D%3D; Arrow Part Number: TPS62A02ADRLR; Arrow Price/Stock: https://www.arrow.com/en/products/tps62a02adrlr/texas-instruments?utm_currency=USD&region=nac; Value: TPS62A02ADRLR
footprint SOTFL50P160X60-6N
pins: 1 GND, 2 SW, 3 VIN, 4 EN, 5 FB, 6 PG

## TPS22919DCKR
designator U?
Power Switch ICs - Power Distribution 5.5-V 1.5-A 90-moh m load switch with a A 595-TPS22919DCKT; Manufacturer_Name: Texas Instruments; Datasheet Link: http://www.ti.com/lit/ds/symlink/tps22919.pdf; Height: 1.1mm; Manufacturer_Part_Number: TPS22919DCKR; Mouser Part Number: 595-TPS22919DCKR; Mouser Price/Stock: https://www.mouser.co.uk/ProductDetail/Texas-Instruments/TPS22919DCKR?qs=byeeYqUIh0P8WJZpeizUqw%3D%3D; Arrow Part Number: TPS22919DCKR; Arrow Price/Stock: https://www.arrow.com/en/products/tps22919dckr/texas-instruments?utm_currency=USD&region=nac; Value: TPS22919DCKR
footprint SOT65P210X110-6N
pins: 1 IN, 2 GND, 3 ON, 4 N/C hidden, 5 QOD, 6 OUT

## TPS563257DRLR
designator U?
Switching Voltage Regulators 3-V to 17-V input vo ltage 3-A 1.2-MHz; Manufacturer_Name: Texas Instruments; Datasheet Link: https://www.ti.com/lit/ds/symlink/tps563257.pdf?HQS=dis-mous-null-mousermode-dsf-pf-null-wwe&ts=1702805806378&ref_url=https%253A%252F%252Fwww.mouser.kr%252F; Height: 0.6mm; Manufacturer_Part_Number: TPS563257DRLR; Mouser Part Number: 595-TPS563257DRLR; Mouser Price/Stock: https://www.mouser.co.uk/ProductDetail/Texas-Instruments/TPS563257DRLR?qs=ulEaXIWI0c8v6pUVTbQpaw%3D%3D; Arrow Part Number: TPS563257DRLR; Arrow Price/Stock: https://www.arrow.com/en/products/tps563257drlr/texas-instruments?utm_currency=USD&region=nac; Value: TPS563257DRLR
footprint SOTFL50P160X60-6N
pins: 1 VIN, 2 SW, 3 GND, 4 PG, 5 EN, 6 FB

## VBUS051CD-HD1-G-08
designator D?
Transient Voltage Suppression Diodes - TVS ESD Prot Diode LLP1106-e4-G; Manufacturer_Name: Vishay; Datasheet Link: https://www.vishay.com/docs/81195/vbus051cd.pdf; Height: 0.45mm; Manufacturer_Part_Number: VBUS051CD-HD1-G-08; Mouser Part Number: 78-VBUS051CD-HD1-G08; Mouser Price/Stock: https://www.mouser.co.uk/ProductDetail/Vishay-General-Semiconductor/VBUS051CD-HD1-G-08?qs=9h5moqLwYqSNFc%252B2YDtrgw%3D%3D; Arrow Part Number: VBUS051CD-HD1-G-08; Arrow Price/Stock: https://www.arrow.com/en/products/vbus051cd-hd1-g-08/vishay?utm_currency=USD&region=nac; VALUE: VBUS051CD-HD1-G-08
footprint VBUS051CDHD1G08
pins: 1 A, 2 K

## W6100-Q
designator U?
Ethernet ICs 3-in-1 Ethernet Controller : TCP/IP +MAC+PHY; Manufacturer_Name: WIZnet Inc; Datasheet Link: https://docs.wiznet.io/img/products/w6100/w6100_ds_v104e.pdf; Height: 0.8mm; Manufacturer_Part_Number: W6100-Q; Value: W6100-Q
footprint QFN50P700X700X80-49N-D
pins: 1 GNDA, 2 TXON (out), 3 TXOP (out), 4 1V2A, 5 RXIN (in), 6 RXIP (in), 7 GNDA, 8 3V3A, 9 RSET_BG, 10 GND, 11 XSCO (out), 12 XSCI (in), 13 1V2D, 14 1V2O, 15 3V3A, 16 GNDA, 17 ~{LNK} (out), 18 ~{SPD} (out), 19 ~{DPX} (out), 20 ~{ACT} (out), 21 ~{COL} (out), 22 1V2D, 23 GND, 24 3V3D, 25 MOD0 (in), 26 MOD1 (in), 27 MOD2 (in), 28 MOD3 (in), 29 ~{CS} (in), 30 SCLK (in), 31 1V2D, 32 MOSI (in), 33 MISO (out), 34 ~{RD} (in), 35 ~{WR} (in), 36 3V3D, 37 DAT0 (in), 38 DAT1 (in), 39 DAT2 (in), 40 DAT3 (in), 41 DAT4 (in), 42 DAT5 (in), 43 DAT6 (in), 44 DAT7 (in), 45 1V2D, 46 GND, 47 ~{INT} (out), 48 ~{RST} (in), 49 EP
text: WIZnet

## WIO-SX1262
designator U?
RF Modules Wio-SX1262 Wireless Module (Bulk), SX1262 embedded, supports LoRa&LoRaWAN on EU868 & US915; Manufacturer_Name: Seeed Studio; Manufacturer_Part_Number: 114993390; Datasheet Link: https://www.mouser.com/pdfDocs/Wio-SX1262module-Datasheet.pdf; Height: 3.15mm; Mouser Part Number: 713-114993390; Mouser Price/Stock: https://www.mouser.co.uk/ProductDetail/Seeed-Studio/114993390?qs=NeOn4crkEuu9JWV37oJsXg%3D%3D; Value: WIO-SX1262
footprint 114993390
pins: 1 RF_SW (in), 2 MISO (out), 3 MOSI (in), 4 SCK (in), 5 ~{RST} (in), 6 ~{CS} (in), 7 GND, 8 VCC, 9 ANT, 10 GND, 11 BUSY (out), 12 DIO1 (out)

## WLPH201610M1R0PS
designator L?  Inductance: 1uH
Power Inductors - SMD Power choke,Molded,1.0uH,M,3.9A; Manufacturer_Name: Kamaya; Datasheet Link: http://www.passivecomponent.com/wp-content/uploads/inductor/WLPH201610_S.pdf; Height: 1mm; Manufacturer_Part_Number: WLPH201610M1R0PS; Mouser Part Number: 791-WLPH201610M1R0PS; Mouser Price/Stock: https://www.mouser.co.uk/ProductDetail/Kamaya/WLPH201610M1R0PS?qs=B6kkDfuK7%2FAS4GmpLCY3AA%3D%3D; Value: WLPH201610M1R0PS
footprint WLPH201610M1R0PS
pins: 1, 2

## WS2812B-B
designator D?
LED; Manufacturer_Name: Worldsemi; Manufacturer_Part_Number: WS2812B-B; Datasheet Link: http://www.world-semi.com/DownLoadFile/111; Height: 1.62mm; Parameter 1: WS2812B-B
footprint WS2812BB
pins: 1 VDD, 2 DOUT, 3 VSS, 4 DIN

## XS3A1T3157GSH
designator U?
Analog Switch ICs SOT-1202 ANALOG SWITCH PREC; Manufacturer_Name: Nexperia; Datasheet Link: https://assets.nexperia.com/documents/data-sheet/XS3A1T3157.pdf; Height: 0.35mm; Manufacturer_Part_Number: XS3A1T3157GSH; Mouser Part Number: 771-XS3A1T3157GSH; Mouser Price/Stock: https://www.mouser.co.uk/ProductDetail/Nexperia/XS3A1T3157GSH?qs=vmHwEFxEFR%2F%2FaEijenlHZw%3D%3D; Arrow Part Number: XS3A1T3157GSH; Arrow Price/Stock: null?region=nac; Value: XS3A1T3157GSH
footprint XS3A1T3157GSH
pins: 1 Y2, 2 GND, 3 Y1, 4 Z, 5 VCC, 6 S